# Altium footprint library lib_pulse.PcbLib: 2 footprints
Each footprint in its own frame and in the unit in brackets; x right, y up, seen from the top. Pads: shape width x height; smd on the part's side, far side on the other; paste and mask are expansions set on the pad; w line width, h text height; cw(c..) or ccw(c..) is an arc to the next point about the centre after c.
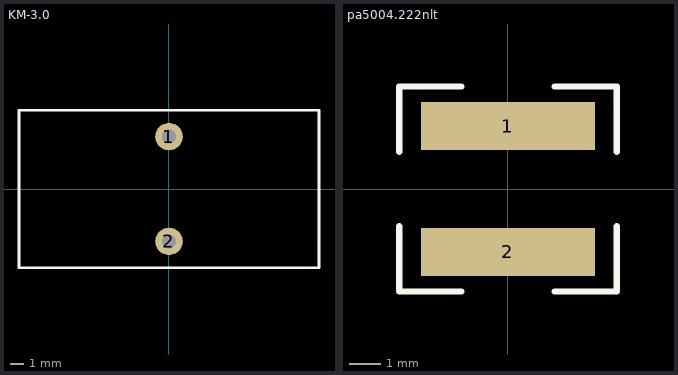
[diagram p0: the footprints below, top view; thin cyan lines are the x and y axes]

## KM-3.0 [mm]
pads (2):
  round 2 hole 1: 1(0,3.81) 2(0,-3.81)
Top Overlay:
  lines w0.2: -10.9,-5.715 -10.9,5.715 10.9,5.715 10.9,-5.715 -10.9,-5.715
3D body "KM-3.0 v2.step": height 22, standoff -3.31, extent -10.9,-5.715 10.9,5.715

## pa5004.222nlt [mm]
pads (2):
  rect 5.6x1.55 smd: 1(0,2.025) 2(0,-2.025)
Top Overlay:
  lines w0.2: -3.5,-1.2 -3.5,-3.3 -1.5,-3.3 ; -3.5,1.2 -3.5,3.3 -1.5,3.3 ; 1.5,-3.3 3.5,-3.3 3.5,-1.2 ; 1.5,3.3 3.5,3.3 3.5,1.2
3D body "pa5004.222nlt.STEP": height 2.88, standoff -0.02, extent -3.4,-3.2 3.4,3.2